# EAGLE library part CFS-0301TB (library TREC_Library)
CFS Slide Switches 3 Position Slide Switch CFS-0301TB CFS = Series Name 03 = Number of bits 01 = Flat Knob non washable type T = Packing = Taping B = Gull Wing CFS DATASHEET <https://www.nidec-copal-electronics.com/e/catalog/switch/cfs.pdf>
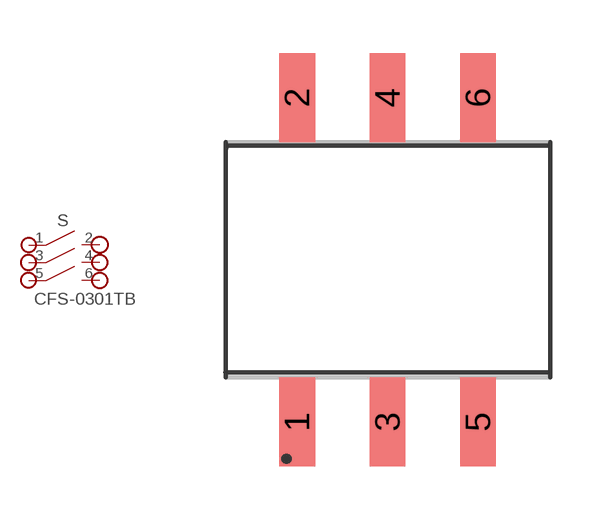
[diagram p0: symbol with the pads of CFS-0301TB; footprint CFS-0301TB]

Designator prefix S

## CFS-0301TBSMD (VALUE: CFS-0301TB)  [CFS-0301TB]
1  1
2  2
3  3
4  4
5  5
6  6

## Footprint CFS-0301TB (pad centres in mm)
smd 1 x 2.5: 1 0.5,1.25; 2 0.5,10.35; 3 3.04,1.25; 4 3.04,10.35; 5 5.58,1.25; 6 5.58,10.35